# EAGLE library part SM06B-SRSS-TB (library SKAARHOJ)
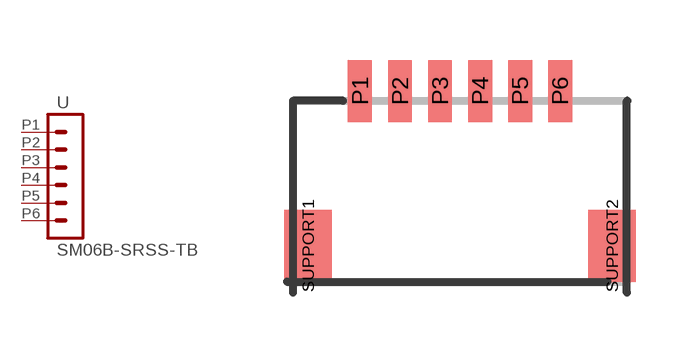
[diagram p93: symbol with the pads of JST-SM06B-SRSS-TB; footprint JST-SM06B-SRSS-TB]

Designator prefix -

## SM06B-SRSS-TB  [JST-SM06B-SRSS-TB]
P1  1  pas
P2  2  pas
P3  3  pas
P4  4  pas
P5  5  pas
P6  6  pas

## Footprint JST-SM06B-SRSS-TB (pad centres in mm)
smd 0.6 x 1.55: P1 -2.5,4.78; P2 -1.5,4.78; P3 -0.5,4.78; P4 0.5,4.78; P5 1.5,4.78; P6 2.5,4.78
smd 1.2 x 1.8: SUPPORT1 -3.8,0.9; SUPPORT2 3.8,0.9